# EAGLE library part VL53L0X (library st-micro)
VL53L0X - Laser Time of Flight Sensor (2M range)
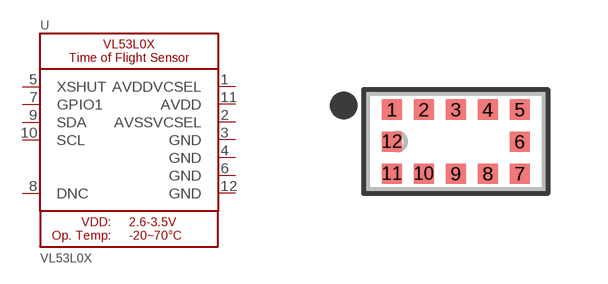
[diagram p0: symbol with the pads of LGA12_ST; footprint LGA12_ST]

Designator prefix U

## VL53L0X  [LGA12_ST]
1  AVDDVCSEL  pwr
2  AVSSVCSEL  pwr
3  GND  pwr
4  GND  pwr
5  XSHUT  in
6  GND  pwr
7  GPIO1  out
8  DNC  nc
9  SDA  oc
10  SCL  oc
11  AVDD  pwr
12  GND  pwr

## Footprint LGA12_ST (pad centres in mm)
smd 0.5 x 0.5: 1 -1.6,0.8; 2 -0.8,0.8; 3 0,0.8; 4 0.8,0.8; 5 1.6,0.8; 6 1.6,0; 7 1.6,-0.8; 8 0.8,-0.8; 9 0,-0.8; 10 -0.8,-0.8; 11 -1.6,-0.8; 12 -1.6,0